# Altium footprint library RF.PcbLib: 9 footprints
Each footprint in its own frame and in the unit in brackets; x right, y up, seen from the top. Pads: shape width x height; smd on the part's side, far side on the other; paste and mask are expansions set on the pad; w line width, h text height; cw(c..) or ccw(c..) is an arc to the next point about the centre after c.
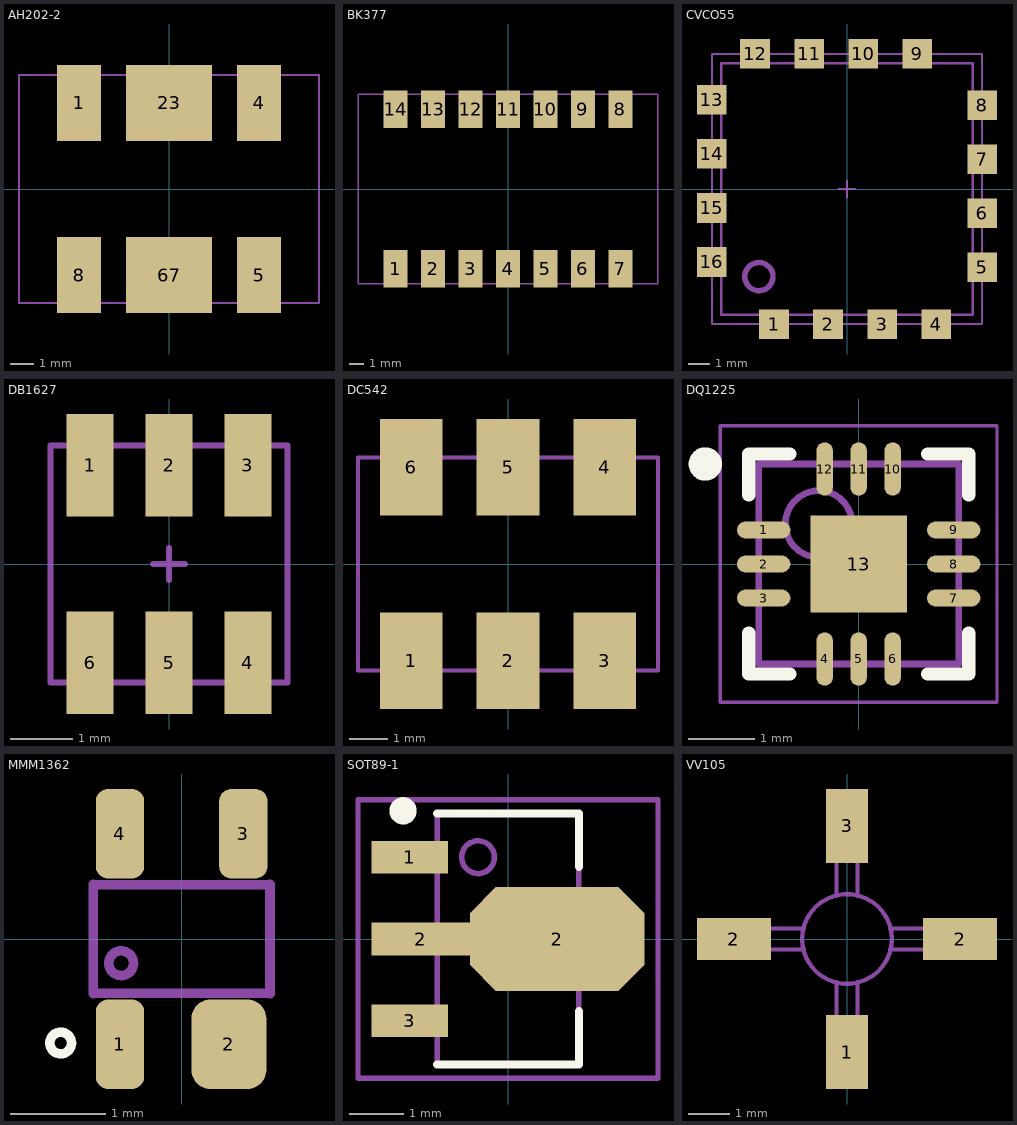
[diagram p0: the footprints below, top view; thin cyan lines are the x and y axes]

## AH202-2 [mil] "Power Splitter/Combiner 2way 50R 5 to 2500MHz"
height 250
pads (6):
  rect 74x127 smd: 1(-150,143.5) 4(150,143.5) 5(150,-143.5) 8(-150,-143.5)
  rect 144x127 smd: 23(0,143.5) 67(0,-143.5)
Mechanical 13:
  lines w4: -250,-190 -250,190 -170,190 ccw(c-150,190) -130,190 -60,190 ccw(c-40,190) -20,190 20,190 ccw(c40,190) 60,190 130,190 ccw(c150,190) 170,190 250,190 250,-190 170,-190 ccw(c150,-190) 130,-190 60,-190 ccw(c40,-190) 20,-190 -20,-190 ccw(c-40,-190) -60,-190 -130,-190 ccw(c-150,-190) -170,-190 -250,-190
3D body: height 20, standoff 0, extent -250,-190 250,190
3D body: height 250, standoff 20, extent -210,-165 210,165
3D body: height 250.01, standoff 250, extent -179.84,80.04 -120.08,139.92

## BK377 [mil] "Power Splitter/Combiner 4way 50R 5 to 1000MHz"
height 250
pads (14):
  rect 65x100 smd: 1(-300,-212.5) 2(-200,-212.5) 3(-100,-212.5) 4(0,-212.5) 5(100,-212.5) 6(200,-212.5) 7(300,-212.5) 8(300,212.5) 9(200,212.5) 10(100,212.5) 11(0,212.5) 12(-100,212.5) 13(-200,212.5) 14(-300,212.5)
Mechanical 13:
  lines w4: -400,-252.5 400,-252.5 400,252.5 -400,252.5 -400,-252.5
3D body: height 250.1, standoff 250, extent -349.91,-199.97 -229.97,-80.01
3D body: height 250, standoff 0, extent -400,-252.5 400,252.5

## CVCO55 [mil] "Crystek CVCO55"
height 150
pads (16):
  rect 55x55 smd: 1(-135,-250) 2(-35,-250) 3(65,-250) 4(165,-250) 5(250,-145) 6(250,-45) 7(250,55) 8(250,155) 9(130,250) 10(30,250) 11(-70,250) 12(-170,250) 13(-250,165) 14(-250,65) 15(-250,-35) 16(-250,-135)
Mechanical 13:
  circle w10: c-163,-162 r26.08
  lines w4: -250,-148 ccw(c-250,-135) -237,-135 ccw(c-250,-135) -250,-122 ; -250,-48 ccw(c-250,-35) -237,-35 ccw(c-250,-35) -250,-22 ; -250,52 ccw(c-250,65) -237,65 ccw(c-250,65) -250,78 ; -250,152 ccw(c-250,165) -237,165 ccw(c-250,165) -250,178 ; -183,250 ccw(c-170,250) -170,237 ccw(c-170,250) -157,250 ; -148,-250 cw(c-135,-250) -135,-237 cw(c-135,-250) -122,-250 ; -83,250 ccw(c-70,250) -70,237 ccw(c-70,250) -57,250 ; -48,-250 cw(c-35,-250) -35,-237 cw(c-35,-250) -22,-250 ; 17,250 ccw(c30,250) 30,237 ccw(c30,250) 43,250 ; 52,-250 cw(c65,-250) 65,-237 cw(c65,-250) 78,-250 ; 117,250 ccw(c130,250) 130,237 ccw(c130,250) 143,250 ; 152,-250 cw(c165,-250) 165,-237 cw(c165,-250) 178,-250 ; 250,-158 cw(c250,-145) 237,-145 cw(c250,-145) 250,-132 ; 250,-58 cw(c250,-45) 237,-45 cw(c250,-45) 250,-32 ; 250,42 cw(c250,55) 237,55 cw(c250,55) 250,68 ; 250,142 cw(c250,155) 237,155 cw(c250,155) 250,168 ; -250,-250 -250,250 250,250 250,-250 -250,-250 ; -232.5,-232.5 -232.5,232.5 232.5,232.5 232.5,-232.5 -232.5,-232.5
Mechanical 15:
  lines w4: -15.75,0 15.75,0 ; 0,-15.75 0,15.75
3D body: height 150.01, standoff 0.01, extent -192.99,-191.99 -132.99,-131.99
3D body: height 150, standoff 19.68, extent -232.5,-232.5 232.5,232.5
3D body: height 19.68, standoff 0, extent -250,-250 250,250

## DB1627 [mil] "RF Splitter"
height 159.84
pads (6):
  rect 30x65 smd: 1(-50,62.5) 2(0,62.5) 3(50,62.5) 4(50,-62.5) 5(0,-62.5) 6(-50,-62.5)
Mechanical 13:
  circle w3.94: c-50.01,56 r10
  lines w4: -75,-75 75,-75 75,75 -75,75 -75,-75
Mechanical 15:
  lines w3.94: -10,0 10,0 ; 0,-10 0,10
3D body: height 129.92, standoff 118.11, extent -51.18,-59.06 51.18,59.06
3D body: height 98.43, standoff 86.61, extent -51.18,-59.06 51.18,59.06
3D body: height 66.93, standoff 55.12, extent -51.18,-59.06 51.18,59.06
3D body: height 114.17, standoff 102.36, extent -51.18,-59.06 51.18,59.06
3D body: height 82.68, standoff 70.87, extent -51.18,-59.05 51.18,59.06
3D body: height 47.24, standoff 31.5, extent -70.87,-42.32 70.86,42.32
3D body: height 31.5, standoff 0, extent -75,-75 75,75
3D body: height 160, standoff 141.73, extent -75,-67 75,65
3D body: height 141.73, standoff 47.24, extent -70.87,-42.32 -55.12,42.32
3D body: height 141.73, standoff 47.24, extent 55.12,-42.32 70.86,42.32
3D body: height 141.73, standoff 47.24, extent -14.77,-42.32 14.76,42.32
3D body: height 31.89, standoff 31.5, extent -60,46 -40,66

## DC542 [mil] "Directionanl coupler 50R 5 to 2500MHz"
height 112
pads (6):
  rect 65x100 smd: 1(-100,-100) 2(0,-100) 3(100,-100) 4(100,100) 5(0,100) 6(-100,100)
Mechanical 13:
  circle w3.94: c-101,-70 r17.26
  lines w3.94: -155,-110 155,-110 155,110 -155,110 -155,-110
3D body: height 112, standoff 0, extent -155,-110 155,110
3D body: height 113, standoff 1, extent -121,-89.98 -81,-50.01

## DQ1225 [mm] "QFN, 12-Leads, Body 3,00x3,00mm, Pitch 0,51mm, Thermal Pad 1,45x1,45mm, IPC Medium Density"
height 0.89
pads (13):
  oval 0.8x0.25 smd mask+0.076: 1(-1.425,0.51) 2(-1.425,0) 3(-1.425,-0.51) 7(1.425,-0.51) 8(1.425,0) 9(1.425,0.51)
  oval 0.25x0.8 smd mask+0.076: 4(-0.51,-1.425) 5(0,-1.425) 6(0.51,-1.425) 10(0.51,1.425) 11(0,1.425) 12(-0.51,1.425)
  rect 1.45x1.45 smd mask+0.076: 13(0,0)
Top Overlay:
  circle w0.25: c-2.3,1.5 r0.125
  lines w0.2: -1.65,-1.035 -1.65,-1.65 -1.035,-1.65 ; -1.65,1.035 -1.65,1.65 -1.035,1.65 ; 1.035,-1.65 1.65,-1.65 1.65,-1.035 ; 1.035,1.65 1.65,1.65 1.65,1.035
Mechanical 13:
  circle w0.1: c-0.6,0.6 r0.5
  lines w0.1: -1.5,-1.5 -1.5,1.5 1.5,1.5 1.5,-1.5 -1.5,-1.5
Mechanical 15:
  lines w0.05: -2.075,-2.075 -2.075,2.075 2.075,2.075 2.075,-2.075 -2.075,-2.075
  lines w0.1: -0.5,0 0.5,0 ; 0,-0.5 0,0.5
3D body: height 0.89, standoff 0.01, extent -1.5,-1.5 1.5,1.5

## MMM1362 [mil] "RF amplifier PSA4"
height 43.31
pads (4):
  rrect50% 20x37 smd: 1(-25.5,-43.5) 3(25.5,43.5) 4(-25.5,43.5)
  rrect50% 31x37 smd: 2(19.5,-43.5)
Top Overlay:
  circle w3.94: c-50,-43 r4.47
Mechanical 13:
  circle w3.94: c-25,-10 r5.1
  lines w3.94: -36.5,-22.5 36.5,-22.5 ; -36.5,22.5 36.5,22.5
  lines w4: -36.5,-22.5 -36.5,22.5 ; 36.5,-22.5 36.5,22.5
3D body: height 20, standoff 0, extent -31,22.5 -20,47
3D body: height 20, standoff 0, extent 20,22.5 31,47
3D body: height 20, standoff 0, extent -31,-47 -20,-22.5
3D body: height 20, standoff 0, extent 8,-47 31,-22.5
3D body: height 43, standoff 0, extent -36.5,-22.5 36.5,22.5
3D body: height 43.01, standoff 43, extent -32,-16.99 -18,-3

## SOT89-1 [mm] "SOT89 3-Leads 4,5x2,4mm R1,50mm"
height 1.6
pads (4):
  rect 1.4x0.6 smd: 1(-1.8,1.5) 3(-1.8,-1.5)
  rect 1.8x0.6 smd: 2(-1.6,0)
  oct 3.2x1.9 smd: 2(0.9,0)
Top Overlay:
  circle w0.25: c-1.925,2.35 r0.125
  lines w0.15: -1.3,-2.3 1.3,-2.3 1.3,-1.325 ; -1.3,2.3 1.3,2.3 1.3,1.325
Mechanical 13:
  circle w0.1: c-0.55,1.5 r0.3
  lines w0.1: -1.3,-2.3 1.3,-2.3 1.3,2.3 -1.3,2.3 -1.3,-2.3
  lines w0.102: -1.3,-1.7 -2.175,-1.7 -2.175,-1.3 -1.3,-1.3 ; -1.3,-0.2 -2.175,-0.2 -2.175,0.2 -1.3,0.2 ; -1.3,1.3 -2.175,1.3 -2.175,1.7 -1.3,1.7 ; 1.3,-0.825 1.95,-0.825 2.375,-0.4 2.375,0.4 1.95,0.825 1.3,0.825
Mechanical 15:
  lines w0.1: -0.5,0 0.5,0 ; 0,-0.5 0,0.5 ; -2.75,-2.55 2.75,-2.55 2.75,2.55 -2.75,2.55 -2.75,-2.55
3D body: height 0.3, standoff 0, extent 1.3,-0.825 2.375,0.825
3D body: height 0.3, standoff 0, extent -2.175,1.3 -1.3,1.7
3D body: height 0.3, standoff 0, extent -2.175,-0.2 -1.3,0.2
3D body: height 0.3, standoff 0, extent -2.175,-1.7 -1.3,-1.3
3D body: height 1.6, standoff 0, extent -1.3,-2.3 1.3,2.3
3D body: height 1.61, standoff 1.6, extent -0.85,1.2 -0.25,1.8

## VV105 [mil] "RF amplifier"
height 60
pads (4):
  rect 40x70 smd: 1(0,-107) 3(0,107)
  rect 70x40 smd: 2(-107,0) 2(107,0)
Mechanical 13:
  circle w4: c0,0 r42.5
  lines w4: -41,-10 -125,-10 -125,10 -41,10 ; -10,-41 -10,-105 10,-125 10,-41 ; -10,41 -10,125 10,125 10,41 ; 41,-10 125,-10 125,10 41,10
3D body: height 8, standoff 0, extent -10,-125 10,-41
3D body: height 8, standoff 0, extent 41,-10 125,10
3D body: height 8, standoff 0, extent -10,41 10,125
3D body: height 8, standoff 0, extent -125,-10 -41,10
3D body: height 60.01, standoff 60, extent -9.95,-35.98 9.97,-16.02
3D body: height 60, standoff 0, extent -42.16,-42.41 42.51,42.42